# EAGLE library part MSTBV7 (library Copy of CON_PHOENIX_508)
PHOENIX
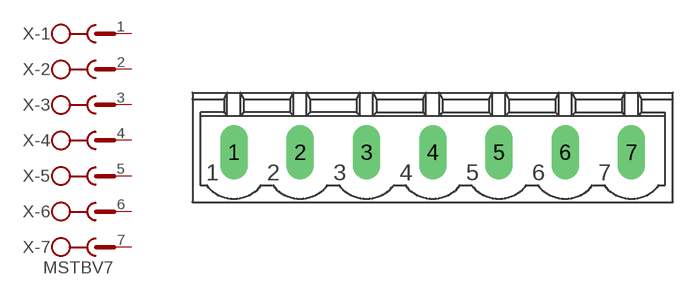
[diagram p59: symbol with the pads of MSTBV7; footprint MSTBV7]

Designator prefix X; gates -1=SK -2=SK -3=SK -4=SK -5=SK -6=SK -7=SKV

## MSTBV7  [MSTBV7]
1  -1:1  pas
2  -2:1  pas
3  -3:1  pas
4  -4:1  pas
5  -5:1  pas
6  -6:1  pas
7  -7:1  pas

## Footprint MSTBV7 (pad centres in mm)
PHOENIX
drill 1.397 long: 1 -15.24,0; 2 -10.16,0; 3 -5.08,0; 4 0,0; 5 5.08,0; 6 10.16,0; 7 15.24,0